# Altium integrated library PowerJack_02.IntLib: 1 symbol
Pins are listed as number, name and electrical type; pins without a type are passive.

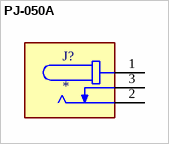
[diagram p0: symbol PJ-050A]

## PJ-050A
designator J?
MF: {'manufacturer': u'CUI'}; MP: PJ-050A; Package: None; Price: None; Value: *; Availability: Unavailable
footprint CUI_PJ-050A
pins: 1, 2, 3